# Altium footprint library 牛子开关.PcbLib: 2 footprints
Each footprint in its own frame and in the unit in brackets; x right, y up, seen from the top. Pads: shape width x height; smd on the part's side, far side on the other; paste and mask are expansions set on the pad; w line width, h text height; cw(c..) or ccw(c..) is an arc to the next point about the centre after c.
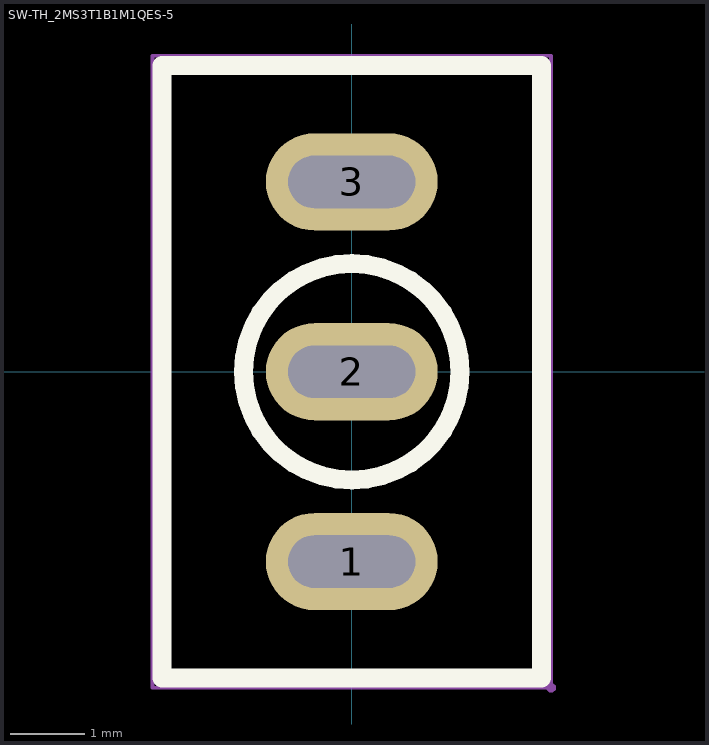
[diagram p0: the footprints below, top view; thin cyan lines are the x and y axes]

## PCBComponent_1 [mm]

## SW-TH_2MS3T1B1M1QES-5 [mm]
pads (3):
  oval 2.3x1.3 hole 0.7 slot 1.7 at 0 deg: 1(0,-2.54) 2(0,0) 3(0,2.54)
Top Overlay:
  circle w0.254: c0,0 r1.448
  lines w0.254: -2.54,-4.1 2.54,-4.1 2.54,4.1 -2.54,4.1 -2.54,-4.1
Mechanical 15:
  region: 2.727,-4.227 2.727,-4.202 2.692,-4.167 2.642,-4.167 2.607,-4.202 2.607,-4.227 2.607,-4.252 2.642,-4.287 2.692,-4.287 2.727,-4.252 2.727,-4.227
  region: -0.5,-2.26 0.5,-2.26 0.5,-2.82 -0.5,-2.82
  region: -0.5,0.28 0.5,0.28 0.5,-0.28 -0.5,-0.28
  region: -0.5,2.82 0.5,2.82 0.5,2.26 -0.5,2.26
  lines w0.051: -2.667,-4.227 2.667,-4.227 2.667,4.227 -2.667,4.227 -2.667,-4.227